# EAGLE library part ADXL377 (library DorMouse)
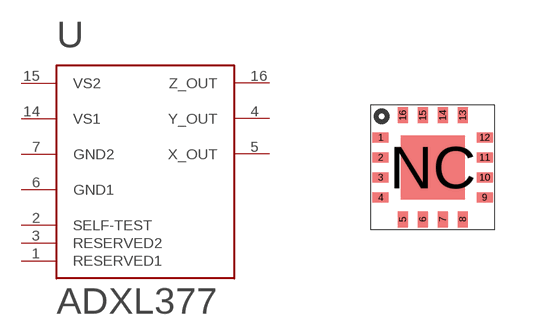
[diagram p5: symbol with the pads of LFCSP-16; footprint LFCSP-16]

Designator prefix -

## ADXL377  [LFCSP-16]
1  RESERVED1
2  SELF-TEST
3  RESERVED2
4  Y_OUT
5  X_OUT
6  GND1
7  GND2
14  VS1
15  VS2
16  Z_OUT

## Footprint LFCSP-16 (pad centres in mm)
smd 0.4 x 0.25: 1 -1.3,0.75; 2 -1.3,0.25; 3 -1.3,-0.25; 4 -1.3,-0.75; 9 1.3,-0.75; 10 1.3,-0.25; 11 1.3,0.25; 12 1.3,0.75
smd 0.25 x 0.4: 5 -0.75,-1.3; 6 -0.25,-1.3; 7 0.25,-1.3; 8 0.75,-1.3; 13 0.75,1.3; 14 0.25,1.3; 15 -0.25,1.3; 16 -0.75,1.3
smd 1.6 x 1.6: NC 0,0